# EAGLE library part 87368-08_S (library con-molex-milli-grid)
RECEPTACAL
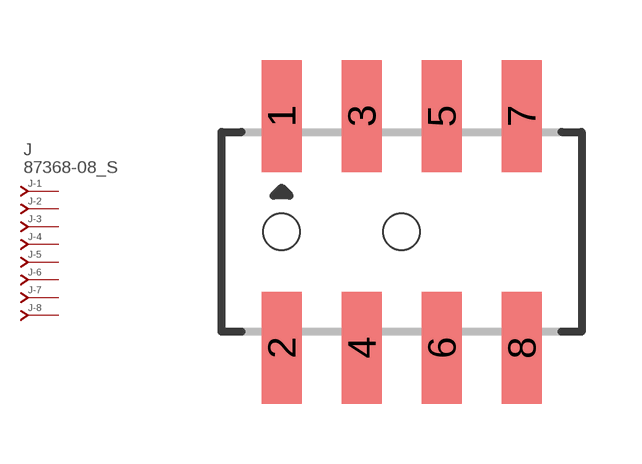
[diagram p305: symbol with the pads of 87368-08; footprint 87368-08]

Designator prefix J; gates -1=J-NV -2=J-N -3=J-N -4=J-N -5=J-N -6=J-N -7=J-N -8=J-N

## 87368-08_S  [87368-08]
1  -1:J  pas
2  -2:J  pas
3  -3:J  pas
4  -4:J  pas
5  -5:J  pas
6  -6:J  pas
7  -7:J  pas
8  -8:J  pas

## Footprint 87368-08 (pad centres in mm)
RECEPTACAL Dual Row, Side Entry
smd 1 x 2.8: 1 -3,2.9; 2 -3,-2.9; 3 -1,2.9; 4 -1,-2.9; 5 1,2.9; 6 1,-2.9; 7 3,2.9; 8 3,-2.9
hole 0.914 at -3,0
hole 0.914 at 0,0